# Altium schematic symbol library Libreria_Casera.SchLib: 165 symbols (part 2 of 2)
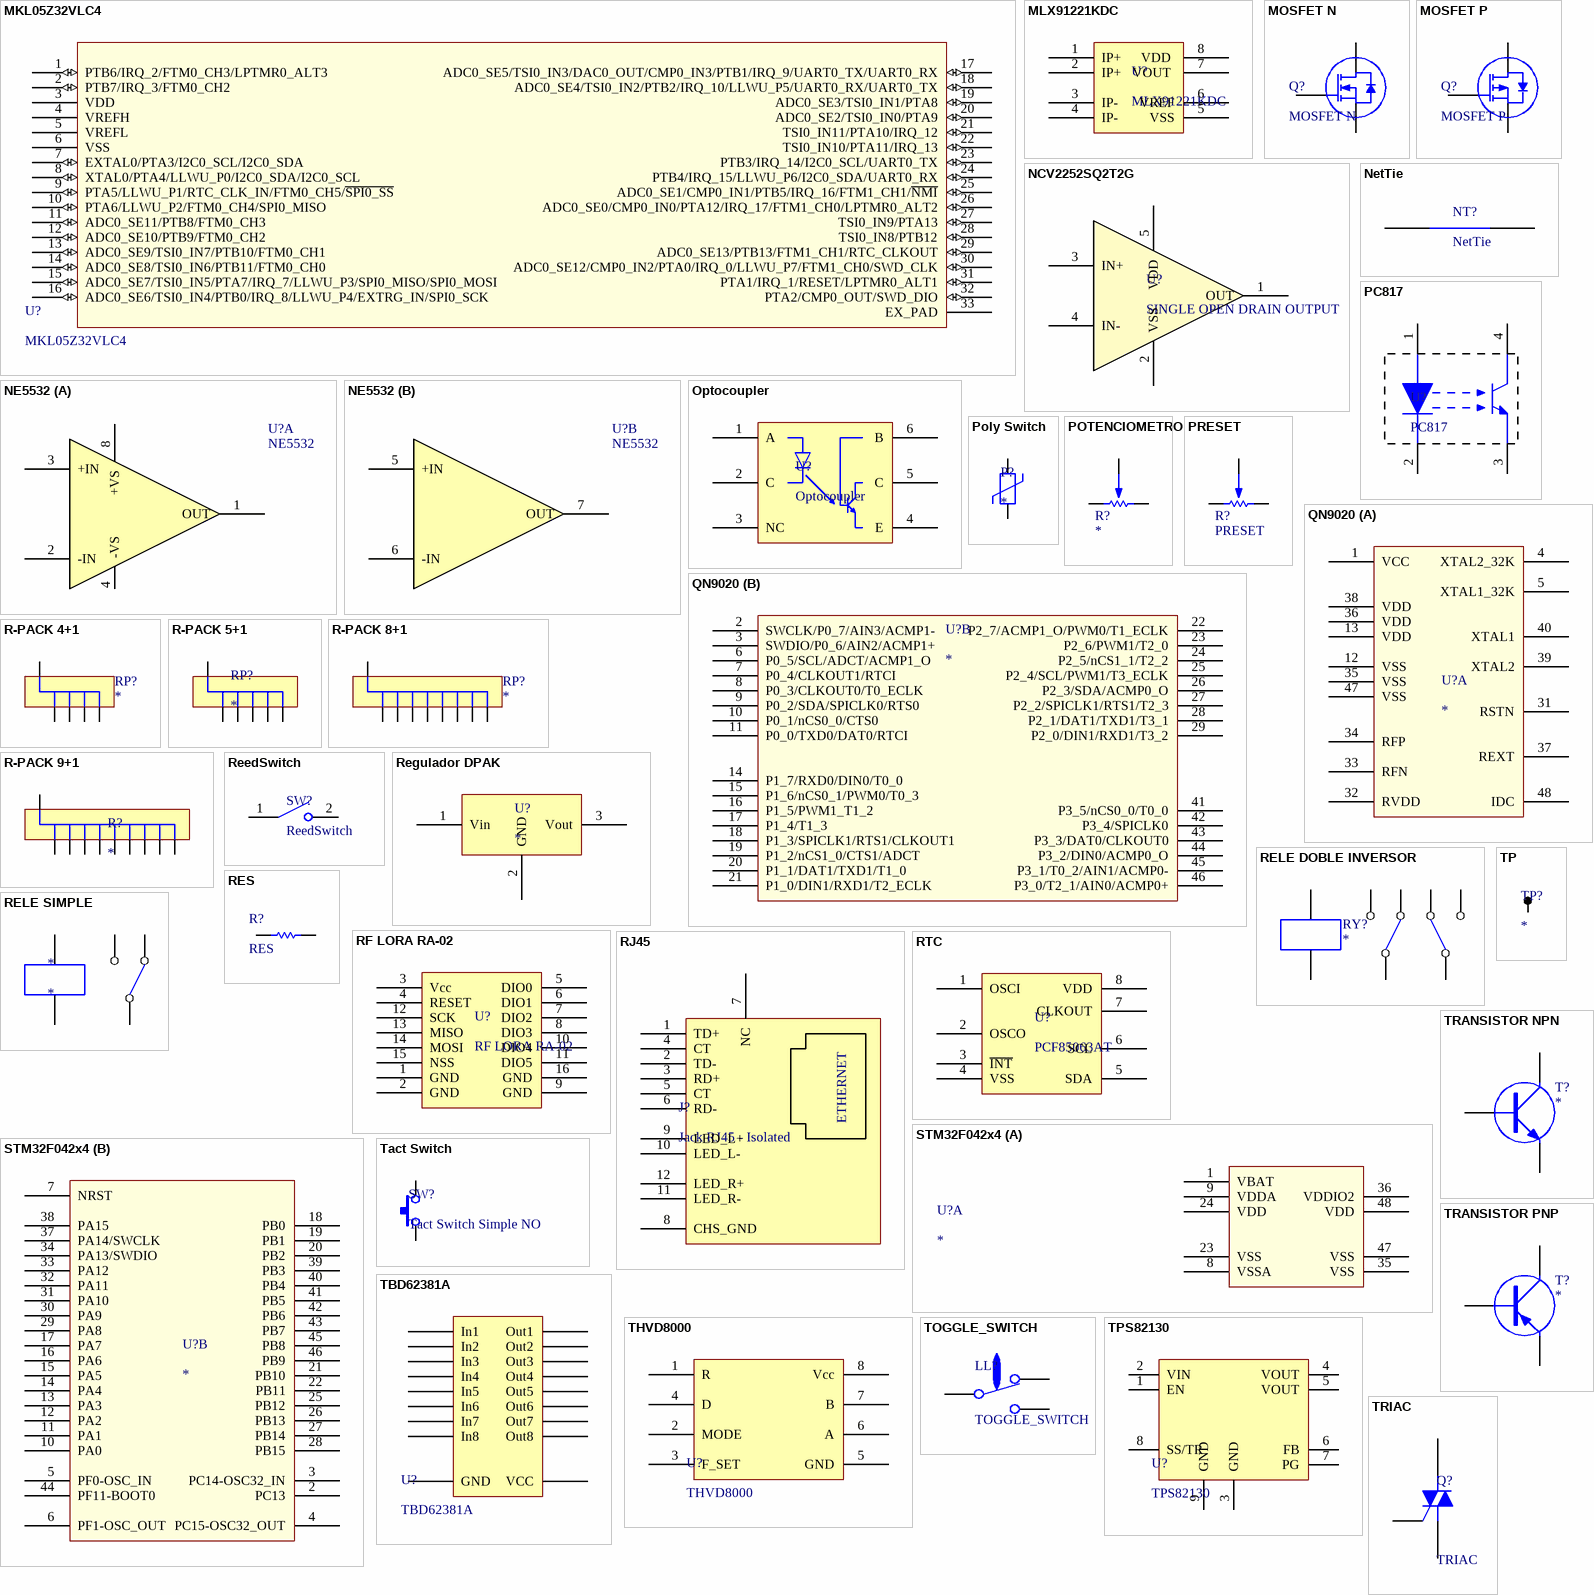
[diagram p7: symbols MKL05Z32VLC4 to TRIAC]

## THVD8000
designator U?
footprint sot23-8 (TSOP, 8-Leads, Body 2,90x1,60mm, Pitch 0,65mm, IPC Medium Density)
pins: 1 R, 2 MODE, 3 F_SET, 4 D, 5 GND, 6 A, 7 B, 8 Vcc

## TOGGLE_SWITCH
designator LL?
Pulsador con reteción
footprint TOOGLE SWITCH SIMPLE
pins: 1 NA, 2 C, 3 NC

## TP
designator TP?
footprint TPSMD
footprint TPTH
footprint cableawg20
footprint cableawg22
pins: 1

## TPS82130
designator U?
footprint uSIP-08 (PSON, 8-Leads, Body 3.00x2.80mm, Pitch 0.65mm, Thermal Pad 1.90x1.10mm, IPC Medium Density)
pins: 1 EN, 2 VIN, 3 GND, 4 VOUT, 5 VOUT, 6 FB, 7 PG, 8 SS/TR, 9 GND

## TRANSISTOR NPN
designator T?
footprint SOT23
footprint TO92
footprint TO-220 H
footprint TO-220 V
footprint TO-220 H - DISIPADOR
footprint TO-126 V
footprint DPAK
footprint D2PAK
pins: 1 B, 2 C, 3 E

## TRANSISTOR PNP
designator T?
footprint SOT23
footprint TO92
footprint TO-220 H
footprint TO-220 V
footprint TO-220 H - DISIPADOR
footprint TO-126 V
footprint DPAK
footprint D2PAK
pins: 1 B, 2 C, 3 E

## TRIAC
designator Q?
footprint TO-220 H
footprint TO-220 V
pins: 1 M1, 2 M2, 3 G

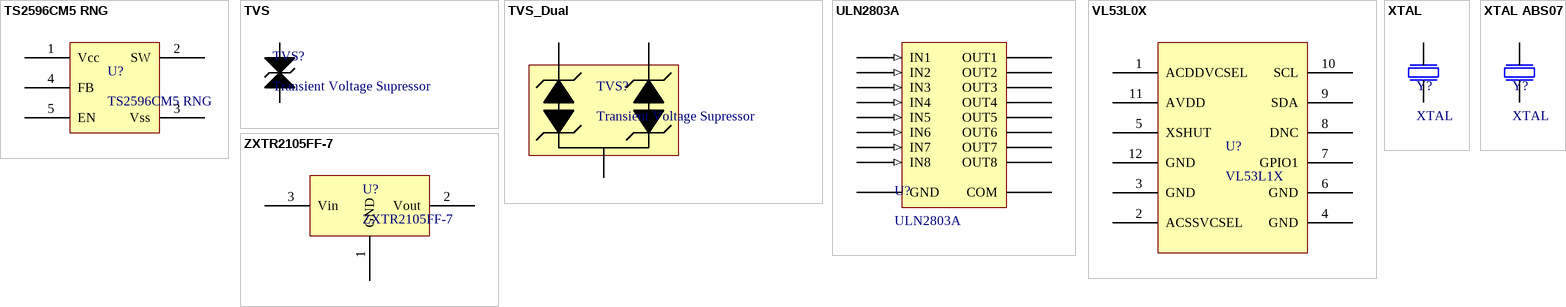
[diagram p6: symbols TS2596CM5 RNG to ZXTR2105FF-7]

## TS2596CM5 RNG
designator U?
IC REG BUCK ADJ 3A TO263-5
footprint D2PAK-5 (D2-PAK, 6-Pads, Body 7,77x8,48mm (max), IPC Medium Density)
pins: 1 Vcc, 2 SW, 3 Vss, 4 FB, 5 EN

## TVS
designator TVS?, comment Transient Voltage Supressor
footprint SMA (SMA DIode Package)
footprint SMB (SMB Diode Package)
footprint SMC (SMC Diode Package)
pins: 1, 2

## TVS_Dual
designator TVS?, comment Transient Voltage Supressor
footprint SOT23-3 (SOT23, 3-Leads, Body 2,90x2,45mm, Pitch 0,95mm, IPC Medium Density)
pins: 1, 2, 3

## ULN2803A
designator U?
footprint SOIC18
footprint soic18w
footprint dip18
pins: 1 IN1 (in), 2 IN2 (in), 3 IN3 (in), 4 IN4 (in), 5 IN5 (in), 6 IN6 (in), 7 IN7 (in), 8 IN8 (in), 9 GND (power), 10 COM (oc), 11 OUT8 (oc), 12 OUT7 (oc), 13 OUT6 (oc), 14 OUT5 (oc), 15 OUT4 (oc), 16 OUT3 (oc), 17 OUT2 (oc), 18 OUT1 (oc)

## VL53L0X
designator U?, comment VL53L1X
VL53L1X Luz, tiempo de vuelo 3 D Sensor
pins: 1 ACDDVCSEL, 2 ACSSVCSEL, 3 GND, 4 GND, 5 XSHUT, 6 GND, 7 GPIO1, 8 DNC, 9 SDA, 10 SCL, 11 AVDD, 12 GND

## XTAL
designator Y?
XTAL ABS25 by ABRACON LLC
footprint ABS25_XTAL
footprint ABM3C_Xtal (Crystal Abracon LLC. ABM3C)
pins: 1 34, 4 35

## XTAL ABS07
designator Y?, comment XTAL
XTAL ABS07 by ABRACON LLC
footprint ABS25_XTAL
footprint ABM3C_Xtal (Crystal Abracon LLC. ABM3C)
footprint ABS07_Xtal
pins: 1 34, 2 35

## ZXTR2105FF-7
designator U?
Linear Voltage Regulator IC Positive Fixed 1 Output 89mA SOT-23F
footprint SOT23
pins: 1 GND, 2 Vout, 3 Vin